# Altium footprint library FUSE_1206.PcbLib: 1 footprints
Each footprint in its own frame and in the unit in brackets; x right, y up, seen from the top. Pads: shape width x height; smd on the part's side, far side on the other; paste and mask are expansions set on the pad; w line width, h text height; cw(c..) or ccw(c..) is an arc to the next point about the centre after c.
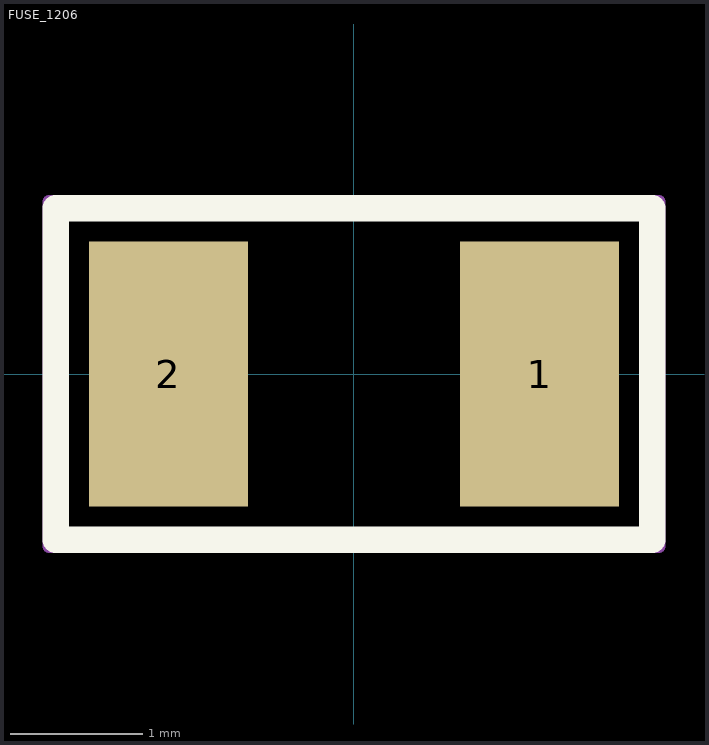
[diagram p0: the footprint, top view; thin cyan lines are the x and y axes]

## FUSE_1206 [mm]
pads (2):
  rect 1.2x2 smd: 1(1.4,0) 2(-1.4,0)
Top Overlay:
  lines w0.2: -2.25,-1.25 2.25,-1.25 2.25,1.25 -2.25,1.25 -2.25,-1.25
Top Courtyard:
  lines w0.1: -2.3,-1.3 2.3,-1.3 2.3,1.3 -2.3,1.3 -2.3,-1.3
3D body "FUSE 1206_3216 0.6MM.step": height 0.76, standoff 0, extent -1.55,-0.775 1.55,0.775